# Altium footprint library 1660.PcbLib: 1 footprints
Each footprint in its own frame and in the unit in brackets; x right, y up, seen from the top. Pads: shape width x height; smd on the part's side, far side on the other; paste and mask are expansions set on the pad; w line width, h text height; cw(c..) or ccw(c..) is an arc to the next point about the centre after c.
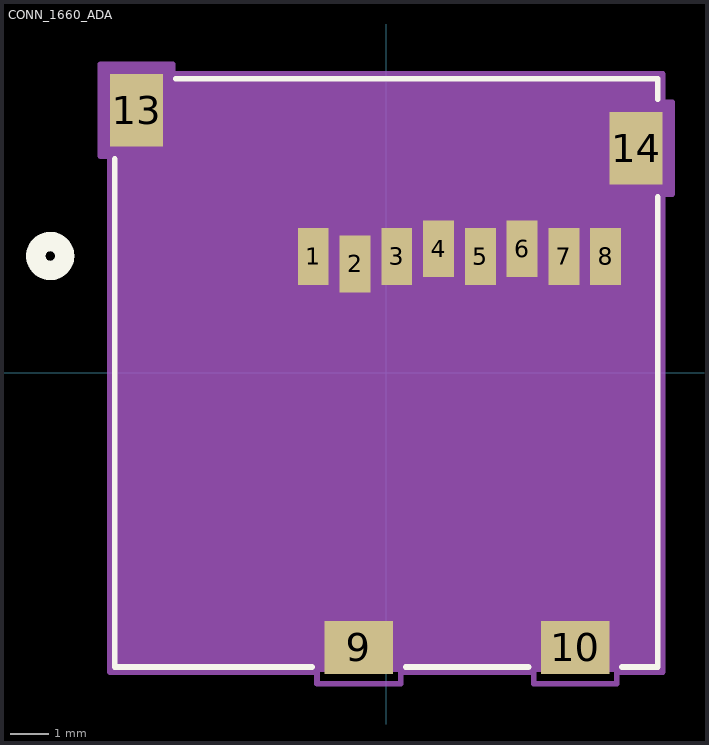
[diagram p0: the footprint, top view; thin cyan lines are the x and y axes]

## CONN_1660_ADA [mil]
pads (12):
  rect 32x59 smd paste+0 mask+0: 1(-75.79,120.87) 2(-32.48,112.99) 3(10.83,120.87) 4(54.13,128.74) 5(97.44,120.87) 6(140.75,128.74) 7(184.06,120.87) 8(227.36,120.87)
  rect 71x55 smd paste-35.5 mask-35.5: 9(-28.54,-284.65) 10(195.87,-284.65)
  rect 55x75 smd paste-37.5 mask-37.5: 13(-258.86,272.44) 14(258.86,233.07)
Top Overlay:
  circle w20: c-348.43,121.26 r15
  lines w6: -281.5,221.84 -281.5,-305 -77.13,-305 ; -218.26,305 281.5,305 281.5,283.67 ; 20.04,-305 147.28,-305 ; 244.45,-305 281.5,-305 281.5,182.47
Bottom Overlay:
  circle w20: c-348.43,121.26 r15
Mechanical 13:
  circle w20: c-148.43,21.26 r15
  lines w1: -276.5,-300 -276.5,300 276.5,300 276.5,-300 -276.5,-300
Mechanical 15:
  region: 66.7,-310 157.7,-310 286.5,-310 286.5,185.57 296.36,185.57 296.36,280.57 286.5,280.57 286.5,310 -221.36,310 -221.36,319.94 -296.36,319.94 -296.36,224.94 -286.5,224.94 -286.5,-310 -157.7,-310 -66.7,-310
  lines w6: -296.36,224.94 -286.5,224.94 -286.5,-310 -72,-310 -72,-322.15 -49.95,-322.15 -4.45,-322.15 15,-322.15 15,-310 152.74,-310 152.74,-322.15 238.92,-322.15 238.92,-310 286.5,-310 286.5,185.57 296.36,185.57 296.36,280.57 286.5,280.57 286.5,310 -221.36,310 -221.36,319.94 -296.36,319.94 -296.36,224.94